# Altium footprint library Air780E.PcbLib: 40 footprints (part 2 of 3)
Each footprint in its own frame and in the unit in brackets; x right, y up, seen from the top. Pads: shape width x height; smd on the part's side, far side on the other; paste and mask are expansions set on the pad; w line width, h text height; cw(c..) or ccw(c..) is an arc to the next point about the centre after c.
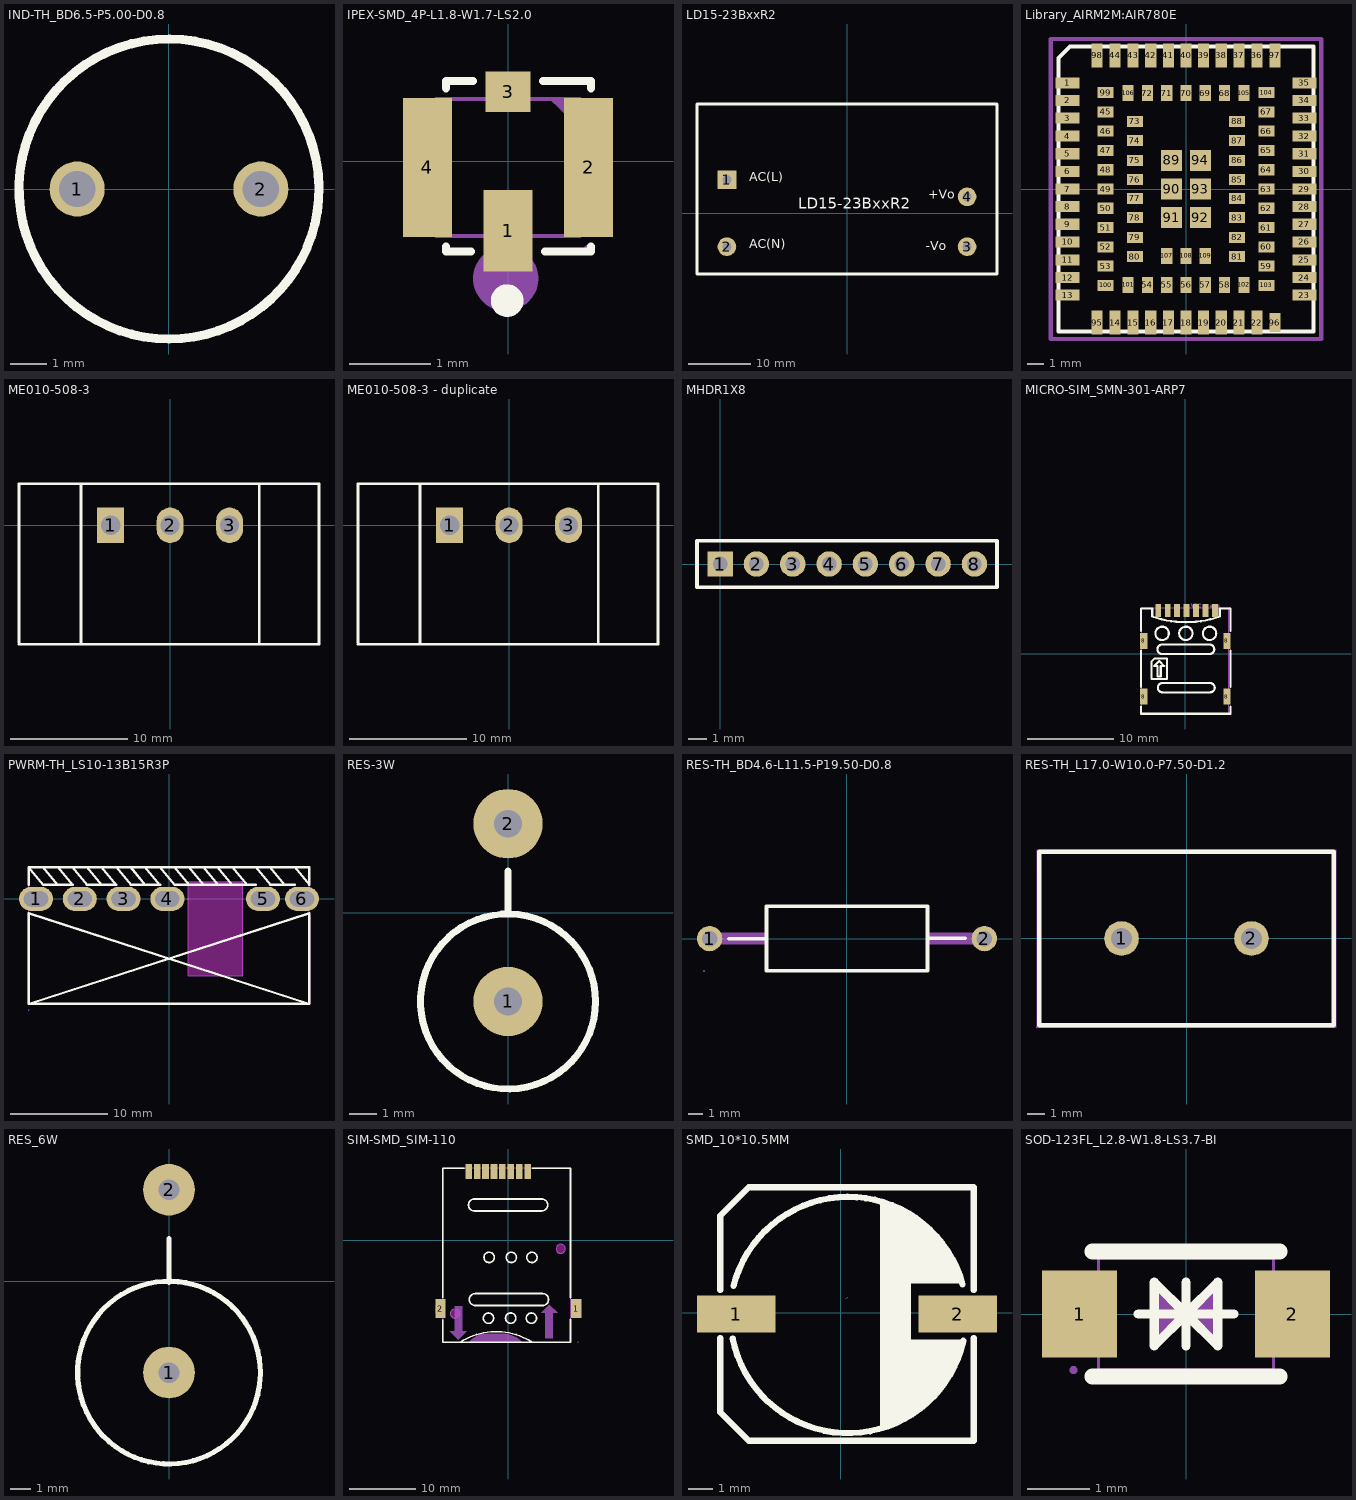
[diagram p1: the footprints below, top view; thin cyan lines are the x and y axes]

## IND-TH_BD6.5-P5.00-D0.8 [mil]
pads (2):
  round 60 hole 39.37 paste-99999 mask+1.97: 1(-100,0) 2(100,0)
Top Overlay:
  lines w10: -159.37,-35.99 cw(c0,0) 160.21,32.04 ; -158.87,-38.13 ccw(c0,0) 160.75,29.23

## IPEX-SMD_4P-L1.8-W1.7-LS2.0 [mm]
pads (4):
  rect 0.6x1 smd paste+0 mask+0.05: 1(0.001,-0.852)
  rect 0.6x1.7 smd paste+0 mask+0.05: 2(0.989,-0.077) 4(-0.989,-0.077)
  rect 0.55x0.5 smd paste+0 mask+0.05: 3(0.001,0.852)
Top Overlay:
  circle w0.2: c-0.01,-1.71 r0.1
  lines w0.1: -0.762,-1.046 -0.762,-1.107 -0.454,-1.107 ; -0.762,0.894 -0.762,0.983 -0.429,0.983 ; 0.43,0.983 1.016,0.983 1.016,0.894 ; 0.455,-1.107 1.016,-1.107 1.016,-1.046
Mechanical 6:
  circle w0.4: c-0.028,-1.439 r0.2
  region: 0.51,0.76 0.88,0.76 0.88,0.41
Mechanical 15:
  region: 1.061,-1.077 1.061,-1.053 1.025,-1.017 0.976,-1.017 0.941,-1.053 0.941,-1.077 0.941,-1.102 0.976,-1.137 1.025,-1.137 1.061,-1.102
  region: -0.249,-1.077 -0.249,-0.427 0.251,-0.427 0.251,-1.077
  region: -0.999,0.623 -0.759,0.623 -0.759,-0.777 -0.999,-0.777
  region: 0.761,0.623 1.001,0.623 1.001,-0.777 0.761,-0.777
  region: -0.199,0.923 0.201,0.923 0.201,0.673 -0.199,0.673
  lines w0.051: -0.879,-0.917 -0.879,0.763 0.881,0.763 0.881,-0.917 -0.879,-0.917

## LD15-23BxxR2 [mm]
pads (4):
  rect 3x3 hole 1.5: 1(-19.25,5.375)
  round 3 hole 1.5: 2(-19.25,-5.375) 3(19.25,-5.375) 4(19.25,2.625)
Top Overlay:
  lines w0.5: -24.05,-9.775 -24.05,17.525 24.05,17.525 24.05,-9.775 -24.05,-9.775
  text "LD15-23BxxR2" at -7.82,0.041 h3
  text "AC(L)" at -15.675,4.658 h2.5
  text "AC(N)" at -15.675,-6.137 h2.5
  text "+Vo" at 13.008,1.819 h2.5
  text "-Vo" at 12.627,-6.436 h2.5

## Library_AIRM2M:AIR780E [mil]
pads (109):
  rect 59.06x27 smd mask+4: 1(-289,259) 2(-289,216) 3(-289,173) 4(-289,129) 5(-289,86) 6(-289,43) 7(-289,0) 8(-289,-43) 9(-289,-86) 10(-289,-129) 11(-289,-173) 12(-289,-216) 13(-289,-259) 23(289,-259) 24(289,-216) 25(289,-173) 26(289,-129) 27(289,-86) 28(289,-43) 29(289,0) 30(289,43) 31(289,86) 32(289,129) 33(289,173) 34(289,216) 35(289,259)
  rect 27x59.06 smd mask+4: 14(-173,-326) 15(-129,-326) 16(-86,-326) 17(-43,-326) 18(0,-326) 19(43,-326) 20(86,-326) 21(129,-326) 22(173,-326) 36(173,326) 37(129,326) 38(86,326) 39(43,326) 40(0,326) 41(-43,326) 42(-86,326) 43(-129,326) 44(-173,326) 95(-217,-326) 97(217,326) 98(-217,326)
  rect 39x27 smd mask+4: 45(-196,188) 46(-196,141) 47(-196,94) 48(-196,47) 49(-196,0) 50(-196,-47) 51(-196,-94) 52(-196,-141) 53(-196,-188) 59(196,-188) 60(196,-141) 61(196,-94) 62(196,-47) 63(196,0) 64(196,47) 65(196,94) 66(196,141) 67(196,188) 73(-125,165) 74(-125,118) 75(-125,70) 76(-125,23) 77(-125,-23) 78(-125,-70) 79(-125,-118) 80(-125,-165) 81(125,-165) 82(125,-118) 83(125,-70) 84(125,-23) 85(125,23) 86(125,70) 87(125,118) 88(125,165) 99(-196,235) 100(-196,-235) 103(196,-235) 104(196,235)
  rect 27x39 smd mask+4: 54(-94,-234) 55(-47,-234) 56(0,-234) 57(47,-234) 58(94,-234) 68(94,234) 69(47,234) 70(0,234) 71(-47,234) 72(-94,234) 101(-141,-234) 102(141,-234) 105(141,234) 106(-141,234) 107(-47,-163.39) 108(0,-163.39) 109(47,-163.39)
  rect 51x51 smd mask+4: 89(-35,70) 90(-35,0) 91(-35,-70) 92(35,-70) 93(35,0) 94(35,70)
  rect 27x47 smd mask+4: 96(217,-326)
Top Overlay:
  lines w10: -311,-348 311,-348 311,348 -283,348 -311,320 -311,-348
Mechanical 15:
  lines w10: -330,-366 330,-366 330,366 -330,366 -330,-366

## ME010-508-3 [mil]
pads (3):
  rect 90x120 hole 65: 1(-200,0)
  oval 90x120 hole 65: 2(0,0) 3(200,0)
Top Overlay:
  lines w10: -508.22,-400 495,-400 ; -508.22,-393.78 -508.22,140 500.96,140 500.96,-400 ; -300,-400 -300,140 ; 300,-400 300,140

## ME010-508-3 - duplicate [mil]
pads (3):
  rect 90x120 hole 65: 1(-200,0)
  oval 90x120 hole 65: 2(0,0) 3(200,0)
Top Overlay:
  lines w10: -508.22,-400 495,-400 ; -508.22,-393.78 -508.22,140 500.96,140 500.96,-400 ; -300,-400 -300,140 ; 300,-400 300,140

## MHDR1X8 [mm] "Connector; Header; 8 Position"
height 1.25
pads (8):
  rect 1.4x1.4 hole 0.8: 1(0,0)
  round 1.4 hole 0.8: 2(2,0) 3(4,0) 4(6,0) 5(8,0) 6(10,0) 7(12,0) 8(14,0)
Top Overlay:
  lines w0.2: -1.27,-1.27 15.24,-1.27 15.24,1.27 -1.27,1.27 -1.27,-1.27

## MICRO-SIM_SMN-301-ARP7 [mm]
pads (11):
  rect 0.85x1.85 smd paste+0 mask+0.051: 8(-4.825,-5) 8(-4.825,1.48) 8(4.825,-5) 8(4.825,1.48)
  rect 0.65x1.5 smd paste+0 mask+0.051: C1(1.23,5) C2(-0.97,5) C3(-3.17,5) C5(3.43,5) C6(0.13,5) C7(-2.07,5) SW(2.33,5)
Top Overlay:
  circle w0.254: c-2.7,2.35 r0.778
  circle w0.254: c0.05,2.35 r0.778
  circle w0.254: c2.8,2.35 r0.778
  lines w0.254: -5.16,-6.165 -5.16,-6.975 -5,-6.975 5.25,-6.975 5.25,-6.156 ; -5.16,-3.844 -5.16,0.324 ; -5.16,2.636 -5.16,5.25 -4.95,5.25 -3.85,5.25 -3.85,4.3 ; -3.85,4.3 ccw(c0.069,15.725) 3.985,4.299 ; -2.7,-0.05 2.8,-0.05 ccw(c2.8,0.5) 2.799,1.049 ; -2.699,-0.051 cw(c-2.696,0.5) -2.7,1.05 2.8,1.05 ; -2.65,-4.5 2.85,-4.5 ccw(c2.846,-3.95) 2.849,-3.4 ; -2.65,-4.5 cw(c-2.646,-3.95) -2.65,-3.4 2.85,-3.4 ; 3.986,4.3 3.986,5.25 4.95,5.25 5.25,5.25 5.25,2.636 ; 5.25,-3.844 5.25,0.324 ; -3.95,-2.95 -2.15,-2.95 -2.15,-0.55 -3.55,-0.55 -3.95,-0.95 -3.95,-2.95 ; -3.65,-1.45 -3.05,-0.85 -2.45,-1.45 -2.85,-1.45 -2.85,-2.65 -3.25,-2.65 -3.25,-1.45 -3.65,-1.45
Mechanical 6:
  drawing of 149 lines, arcs and shapes, not listed
Mechanical 15:
  region: 5.21,5.295 5.21,5.32 5.175,5.355 5.125,5.355 5.09,5.32 5.09,5.295 5.09,5.27 5.125,5.235 5.175,5.235 5.21,5.27
  region: -5.05,2.23 -4.6,2.23 -4.6,0.73 -5.05,0.73
  region: 4.6,2.23 5.05,2.23 5.05,0.73 4.6,0.73
  region: -5.05,-4.35 -4.6,-4.35 -4.6,-5.65 -5.05,-5.65
  region: 4.6,-4.35 5.05,-4.35 5.05,-5.65 4.6,-5.65
  region: 3.23,5.295 3.63,5.295 3.63,4.405 3.23,4.405
  region: 2.13,5.295 2.53,5.295 2.53,4.405 2.13,4.405
  region: 1.03,5.295 1.43,5.295 1.43,4.405 1.03,4.405
  region: -0.07,5.295 0.33,5.295 0.33,4.405 -0.07,4.405
  region: -1.17,5.295 -0.77,5.295 -0.77,4.405 -1.17,4.405
  region: -2.27,5.295 -1.87,5.295 -1.87,4.405 -2.27,4.405
  region: -3.37,5.295 -2.97,5.295 -2.97,4.405 -3.37,4.405
  lines w0.051: -5.05,-7.005 -5.05,5.295 5.05,5.295 5.05,-7.005 -5.05,-7.005

## PWRM-TH_LS10-13B15R3P [mm]
pads (6):
  oval 3.5x2.5 hole 1.6 slot 2.5 at 0 deg paste-2539.97 mask+0.051: 1(-13.67,0) 2(-9.17,0) 3(-4.67,0) 4(-0.17,0) 5(9.67,0) 6(13.67,0)
Top Overlay:
  lines w0.254: -14.42,1.46 -14.407,1.46 ; -14.42,1.46 -14.42,3.25 ; -11.446,1.46 -12.933,3.25 ; -9.936,1.46 -11.423,3.25 ; -9.907,1.46 -12.933,1.46 -14.42,3.25 ; -9.907,3.25 -8.42,1.46 ; -8.433,1.46 -5.407,1.46 ; -6.945,1.46 -8.432,3.25 ; -5.43,1.46 -6.917,3.25 ; -3.933,1.46 -0.907,1.46 ; -3.933,3.25 -2.446,1.46 ; -3.92,1.46 -5.407,3.25 ; -0.971,1.46 -2.458,3.25 ; 0.567,1.46 8.933,1.46 ; 0.58,1.46 -0.907,3.25 ; 0.58,3.25 2.067,1.46 ; 2.059,3.25 3.546,1.46 ; 5.005,3.25 6.492,1.46 ; 5.033,1.46 3.546,3.25 ; 8.016,1.46 6.529,3.25 ; 10.407,1.46 12.933,1.46 ; 10.42,1.46 8.933,3.25 ; 11.895,1.46 10.407,3.25 ; 12.933,3.25 14.42,1.46 ; 14.4,-10.8 -14.42,-10.8 ; 14.407,1.46 14.42,1.46 ; -14.42,-10.8 -14.42,-1.46 14.42,-10.8 14.42,-1.46 -14.42,-10.8 ; -14.42,3.25 14.42,3.25 14.42,1.46 ; -14.42,3.25 -14.42,3.25 ; -12.933,3.25 -12.933,3.25 ; -11.423,3.25 -11.423,3.25 ; -8.433,3.25 -8.432,3.25 ; -6.917,3.25 -6.917,3.25 ; -5.407,3.25 -5.407,3.25 ; -2.458,3.25 -2.458,3.25 ; -0.907,3.25 -0.907,3.25 ; 3.546,3.25 3.546,3.25 ; 6.529,3.25 6.529,3.25 ; 8.933,3.25 8.933,3.25 ; 10.407,3.25 10.407,3.25
Keep-Out Layer:
  board cut-out: 1.963,1.75 1.963,-7.874 7.577,-7.874 7.577,1.75
Mechanical 1:
  lines w0.005: 1.963,-7.874 7.577,-7.874 7.577,1.75 1.963,1.75 1.963,-7.874
Mechanical 6:
  region: -14.53,-1.44 -14.53,-10.82 -14.44,-10.91 14.43,-10.9 14.53,-10.77 14.53,-1.66 14.3,-1.65 14.31,-10.67 14.31,-10.69 14.31,-10.7 -14.31,-10.69 -14.3,-1.44
Mechanical 15:
  region: 12.92,0.5 14.42,0.5 14.42,-0.5 12.92,-0.5
  region: 8.92,0.5 10.42,0.5 10.42,-0.5 8.92,-0.5
  region: -0.92,0.5 0.58,0.5 0.58,-0.5 -0.92,-0.5
  region: -5.42,0.5 -3.92,0.5 -3.92,-0.5 -5.42,-0.5
  region: -9.92,0.5 -8.42,0.5 -8.42,-0.5 -9.92,-0.5
  region: -14.42,0.5 -12.92,0.5 -12.92,-0.5 -14.42,-0.5
  region: -14.36,-11.43 -14.36,-11.405 -14.395,-11.37 -14.445,-11.37 -14.48,-11.405 -14.48,-11.43 -14.48,-11.455 -14.445,-11.49 -14.395,-11.49 -14.36,-11.455
  lines w0.051: -14.42,-10.8 14.42,-10.8 14.42,3.25 -14.42,3.25 -14.42,-10.8

## RES-3W [mil]
pads (2):
  round 100 hole 40: 1(0,-127.95) 2(0,127.95)
Top Overlay:
  circle w10: c0,-127.95 r125.98
  lines w10: 0,2.05 0,60.05

## RES-TH_BD4.6-L11.5-P19.50-D0.8 [mm]
pads (2):
  round 1.8 hole 1.1 paste-2539.97 mask+0.05: 1(-9.75,0) 2(9.75,0)
Top Overlay:
  lines w0.254: -8.382,-0.018 -5.715,-0.018 ; 5.715,0.018 8.382,0.018 ; -5.715,-2.286 -5.715,2.286 5.715,2.286 5.715,-2.286 -5.715,-2.286
Mechanical 15:
  region: -10.094,-2.3 -10.094,-2.275 -10.13,-2.24 -10.179,-2.24 -10.214,-2.275 -10.214,-2.3 -10.214,-2.325 -10.179,-2.36 -10.13,-2.36 -10.094,-2.325
  region: -9.35,0 -9.35,0.08 -9.411,0.227 -9.524,0.339 -9.67,0.4 -9.83,0.4 -9.977,0.339 -10.089,0.227 -10.15,0.08 -10.15,0 -10.15,-0.08 -10.089,-0.227 -9.977,-0.339 -9.83,-0.4 -9.67,-0.4 -9.524,-0.339 -9.411,-0.227 -9.35,-0.08
  region: 10.15,0 10.15,0.08 10.089,0.227 9.977,0.339 9.83,0.4 9.67,0.4 9.524,0.339 9.411,0.227 9.35,0.08 9.35,0 9.35,-0.08 9.411,-0.227 9.524,-0.339 9.67,-0.4 9.83,-0.4 9.977,-0.339 10.089,-0.227 10.15,-0.08
  region: -5.704,-0.399 -10.154,-0.399 -10.154,0.401 -5.704,0.401
  region: 10.149,-0.396 5.699,-0.396 5.699,0.404 10.149,0.404
  lines w0.051: -5.75,-2.3 -5.75,2.3 5.75,2.3 5.75,-2.3 -5.75,-2.3

## RES-TH_L17.0-W10.0-P7.50-D1.2 [mm]
pads (2):
  round 2 hole 1.2 paste-2539.97 mask+0.051: 1(-3.749,0) 2(3.749,0)
Top Overlay:
  lines w0.254: -8.5,-5 8.5,-5 8.5,5 -8.5,5 -8.5,-5
Mechanical 15:
  region: -3.249,0 -3.249,0.099 -3.325,0.283 -3.466,0.424 -3.65,0.5 -3.848,0.5 -4.032,0.424 -4.173,0.283 -4.249,0.099 -4.249,0 -4.249,-0.099 -4.173,-0.283 -4.032,-0.424 -3.848,-0.5 -3.65,-0.5 -3.466,-0.424 -3.325,-0.283 -3.249,-0.099
  region: 4.249,0 4.249,0.099 4.173,0.283 4.032,0.424 3.848,0.5 3.65,0.5 3.466,0.424 3.325,0.283 3.249,0.099 3.249,0 3.249,-0.099 3.325,-0.283 3.466,-0.424 3.65,-0.5 3.848,-0.5 4.032,-0.424 4.173,-0.283 4.249,-0.099
  region: -8.567,-5.127 -8.567,-5.102 -8.602,-5.067 -8.652,-5.067 -8.687,-5.102 -8.687,-5.127 -8.687,-5.152 -8.652,-5.187 -8.602,-5.187 -8.567,-5.152
  lines w0.051: -8.627,-5.127 8.627,-5.127 8.627,5.127 -8.627,5.127 -8.627,-5.127

## RES_6W [mil]
pads (2):
  round 100 hole 40: 1(0,-177.17) 2(0,177.17)
Top Overlay:
  circle w10: c0,-177.17 r177.17
  lines w10: 0,-2.17 0,82.83

## SIM-SMD_SIM-110 [mm]
pads (10):
  rect 1.56x2.9 smd paste+0 mask+0.051: 1(10.275,-10.349) 2(-10.275,-10.351)
  rect 1x2.3 smd paste+0 mask+0.051: C1(2.895,10.351) C2(0.354,10.351) C3(-2.186,10.351) C5(1.624,10.351) C6(-0.916,10.351) C7(-3.456,10.351) CD1(-4.726,10.351) CD2(-5.995,10.351)
Top Overlay:
  circle w0.254: c-2.919,-2.618 r0.78
  circle w0.254: c0.438,-2.614 r0.78
  circle w0.254: c3.558,-2.617 r0.78
  circle w0.254: c-3.012,-11.8 r0.78
  circle w0.254: c0.345,-11.796 r0.78
  circle w0.254: c3.465,-11.799 r0.78
  lines w0.254: -9.905,-12.031 -9.905,-15.45 9.395,-15.45 9.395,-12.007 ; -9.905,-8.67 -9.905,10.85 -6.727,10.85 ; -7.305,-15.45 cw(c-1.845,-23.836) 3.616,-15.451 ; -5.125,4.401 cw(c-5.125,5.311) -5.125,6.221 ; -5.118,4.401 5.025,4.401 ; -5.116,6.22 5.024,6.22 cw(c5.024,5.31) 5.024,4.4 ; -4.999,-9.898 cw(c-4.999,-8.988) -4.999,-8.078 ; -4.992,-9.898 5.15,-9.898 ; -4.991,-8.079 5.149,-8.079 cw(c5.149,-8.989) 5.149,-9.899 ; 3.626,10.85 9.395,10.85 9.395,-8.691
Keep-Out Layer:
  board cut-out: 8.605,-1.319 8.605,-1.227 8.557,-1.049 8.465,-0.89 8.335,-0.759 8.175,-0.667 7.997,-0.619 7.813,-0.619 7.635,-0.667 7.475,-0.759 7.345,-0.89 7.253,-1.049 7.205,-1.227 7.205,-1.319 7.205,-1.412 7.253,-1.59 7.345,-1.749 7.475,-1.88 7.635,-1.972 7.813,-2.019 7.997,-2.019 8.175,-1.972 8.335,-1.88 8.465,-1.749 8.557,-1.59 8.605,-1.412
  board cut-out: -7.395,-11.119 -7.395,-11.027 -7.443,-10.849 -7.535,-10.689 -7.665,-10.559 -7.825,-10.467 -8.003,-10.419 -8.187,-10.419 -8.365,-10.467 -8.525,-10.559 -8.655,-10.689 -8.747,-10.849 -8.795,-11.027 -8.795,-11.119 -8.795,-11.211 -8.747,-11.389 -8.655,-11.549 -8.525,-11.679 -8.365,-11.771 -8.187,-11.819 -8.003,-11.819 -7.825,-11.771 -7.665,-11.679 -7.535,-11.549 -7.443,-11.389 -7.395,-11.211
Mechanical 1:
  circle w0.005: c7.905,-1.319 r0.7
  circle w0.005: c-8.095,-11.119 r0.7
Mechanical 6:
  region: -7.605,-15.05 -8.875,-13.78 -8.113,-13.78 -8.113,-9.97 -6.97,-9.97 -6.97,-13.78 -6.335,-13.78
  region: 6.195,-9.75 7.465,-11.02 6.703,-11.02 6.703,-14.83 5.56,-14.83 5.56,-11.02 4.925,-11.02
  region: 2.154,-15.544 1.924,-15.314 1.786,-15.176 1.483,-14.928 1.158,-14.71 0.812,-14.525 0.45,-14.375 0.076,-14.262 -0.308,-14.185 -0.698,-14.147 -0.894,-14.147 -3.434,-14.147 -3.585,-14.147 -3.884,-14.177 -4.18,-14.235 -4.468,-14.323 -4.746,-14.438 -5.012,-14.58 -5.263,-14.747 -5.496,-14.938 -5.602,-15.045 -6.101,-15.544
Mechanical 15:
  region: 10.573,-15.438 10.573,-15.413 10.538,-15.378 10.488,-15.378 10.453,-15.413 10.453,-15.438 10.453,-15.463 10.488,-15.498 10.538,-15.498 10.573,-15.463
  region: 9.413,-10.984 9.413,-9.784 10.513,-9.784 10.513,-10.984
  region: -10.979,-10.984 -10.979,-9.784 -9.879,-9.784 -9.879,-10.984
  region: -6.195,11.202 -5.795,11.202 -5.795,9.402 -6.195,9.402
  region: -4.926,11.202 -4.526,11.202 -4.526,9.402 -4.926,9.402
  region: -3.656,11.202 -3.256,11.202 -3.256,9.402 -3.656,9.402
  region: -2.386,11.202 -1.986,11.202 -1.986,9.402 -2.386,9.402
  region: -1.116,11.202 -0.716,11.202 -0.716,9.402 -1.116,9.402
  region: 0.154,11.202 0.554,11.202 0.554,9.402 0.154,9.402
  region: 1.424,11.202 1.824,11.202 1.824,9.402 1.424,9.402
  region: 2.695,11.202 3.095,11.202 3.095,9.402 2.695,9.402
  lines w0.051: -9.885,-15.438 -9.885,10.902 9.415,10.902 9.415,-15.438 -9.885,-15.438

## SMD_10*10.5MM [mm]
pads (2):
  rect 3.2x1.5 smd: 1(-4.242,-0.057) 2(4.758,-0.057)
Top Overlay:
  region: 1.608,4.543 1.608,-4.707 2.058,-4.507 2.658,-4.257 3.158,-3.957 3.508,-3.607 3.808,-3.407 4.108,-3.007 4.458,-2.407 4.708,-2.007 4.858,-1.657 5.008,-1.107 2.858,-1.107 2.858,1.043 2.858,1.193 4.908,1.193 4.758,1.743 4.458,2.393 4.208,2.843 3.658,3.393 3.058,3.793 2.458,4.143 2.058,4.443 1.608,4.593
  lines w0.254: -4.892,-1.038 -4.892,-4.057 -3.742,-5.207 5.408,-5.207 5.408,-1.038 ; -4.892,0.924 -4.892,3.943 -3.742,5.093 5.408,5.093 5.408,0.924 ; -4.392,-1.057 ccw(c0.308,-0.107) 4.989,-1.147 ; -4.356,1.089 cw(c0.308,-0.107) 4.958,1.143
Mechanical 15:
  lines w0.003: 0.233,0.578 0.283,0.629

## SOD-123FL_L2.8-W1.8-LS3.7-BI [mm]
pads (2):
  rect 1.2x1.4 smd paste+0 mask+0.051: 1(-1.7,0) 2(1.7,0)
Top Overlay:
  lines w0.15: -0.762,0 0.762,0 ; 0,-0.508 0,0.508 ; 0,-0.254 0,0.254 ; 0,0 -0.508,0.508 -0.508,-0.508 0,0 ; 0,0 0.508,-0.508 0.508,0.508 0,0
  lines w0.254: -1.5,-1 1.5,-1 ; -1.5,1 1.5,1
Mechanical 6:
  region: 0.5,-0.5 0.5,0.5 0,0
  region: -0.5,0.5 -0.5,-0.5 0,0
Mechanical 15:
  region: -1.74,-0.9 -1.74,-0.875 -1.775,-0.84 -1.825,-0.84 -1.86,-0.875 -1.86,-0.9 -1.86,-0.925 -1.825,-0.96 -1.775,-0.96 -1.74,-0.925
  region: 1.275,0.5 1.8,0.5 1.8,-0.5 1.275,-0.5
  region: -1.8,0.5 -1.275,0.5 -1.275,-0.5 -1.8,-0.5
  lines w0.051: -1.4,-0.9 -1.4,0.9 1.4,0.9 1.4,-0.9 -1.4,-0.9